# Altium footprint library Common.PcbLib: 29 footprints (part 2 of 2)
Each footprint in its own frame and in the unit in brackets; x right, y up, seen from the top. Pads: shape width x height; smd on the part's side, far side on the other; paste and mask are expansions set on the pad; w line width, h text height; cw(c..) or ccw(c..) is an arc to the next point about the centre after c.
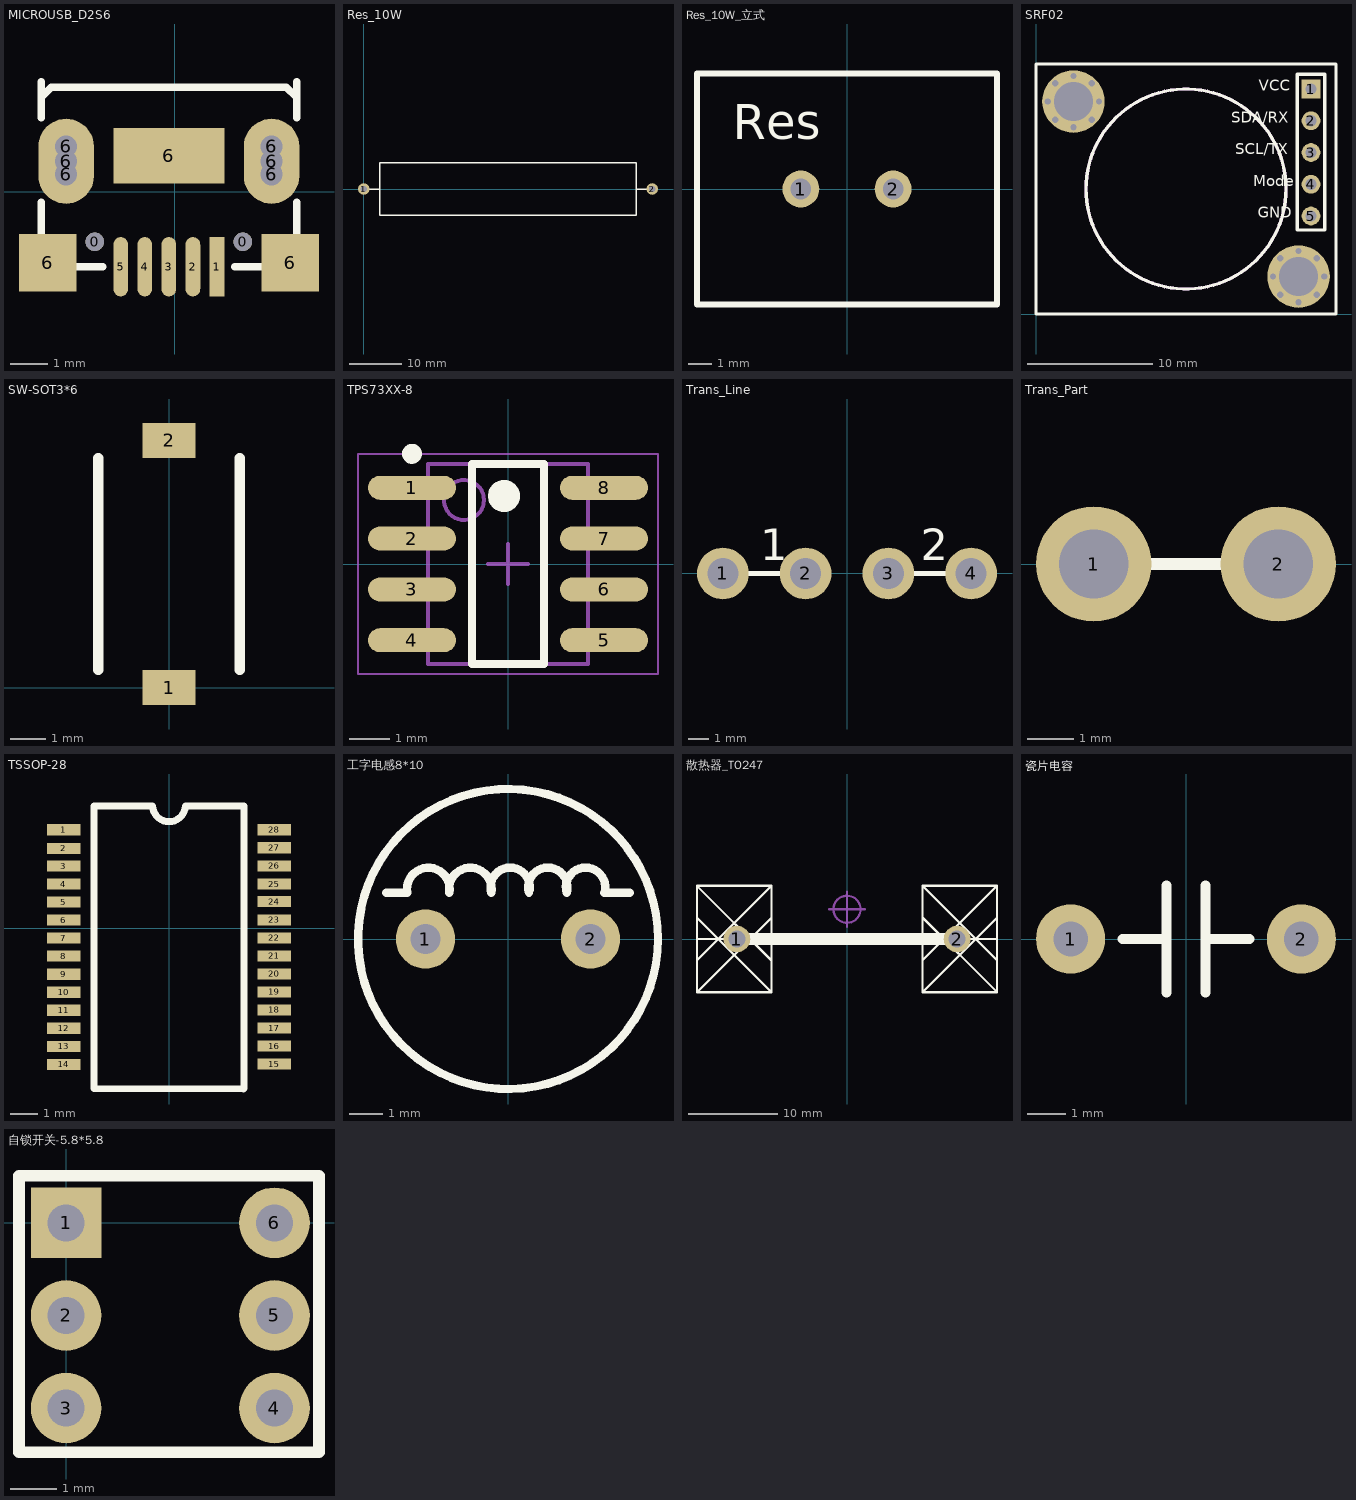
[diagram p1: the footprints below, top view; thin cyan lines are the x and y axes]

## MICROUSB_D2S6 [mm]
height 1.35
pads (16):
  round 0.5 hole 0.5: 0(-2.157,-1.357) 0(1.843,-1.357)
  rect 0.4x1.6 smd: 1(1.143,-2.032)
  oval 0.4x1.6 smd: 2(0.493,-2.032) 3(-0.157,-2.032) 4(-0.807,-2.032) 5(-1.457,-2.032)
  rect 1.55x1.55 smd: 6(-3.429,-1.929) 6(3.124,-1.929)
  round 0.8 hole 0.6: 6(-2.932,0.468) 6(-2.932,1.218) 6(2.618,0.468) 6(2.618,1.218)
  oval 1.5x2.3 hole 0.6: 6(-2.932,0.818) 6(2.618,0.818)
  rect 3x1.5 smd: 6(-0.157,0.968)
Top Overlay:
  lines w0.2: -3.607,-0.294 -3.607,-2.032 -1.935,-2.032 ; -3.607,1.992 -3.607,2.968 ; 1.621,-2.032 3.293,-2.032 3.293,-0.294 ; 3.293,1.992 3.293,2.968
  lines w0.203: -3.607,2.54 -3.329,2.818 2.872,2.818 3.015,2.818 3.293,2.54

## Res_10W [mm] "水泥电阻"
height 10
pads (2):
  round 2.2 hole 1.2: 1(0,0) 2(55,0)
Top Overlay:
  lines w0.254: 0,0 2.873,0 ; 52.127,0 55,0 ; 3,-5 3,5 52,5 52,-5 3,-5

## Res_10W_立式 [mm] "立式水泥电阻"
pads (2):
  round 1.6 hole 0.9: 1(-2,0) 2(2,0)
Top Overlay:
  lines w0.254: -6.5,4.977 -6.5,-5 6.5,-5 ; -6.5,5 6.5,5 6.5,-4.977
  text "Res" at -4.953,2.159 h1.52

## SRF02 [mm]
height 17
pads (7):
  rect 1.5x1.5 hole 0.9: 1(22,18)
  round 1.5 hole 0.9: 2(22,15.46) 3(22,12.92) 4(22,10.38) 5(22,7.84)
  round 5 hole 3.1: ""(3,17) ""(21,3)
via 3,14.95 diameter 0.6 hole 0.5
via 4.464,15.536 diameter 0.6 hole 0.5
via 1.536,15.536 diameter 0.6 hole 0.5
via 0.95,17 diameter 0.6 hole 0.5
via 3,19.05 diameter 0.6 hole 0.5
via 4.464,18.464 diameter 0.6 hole 0.5
via 5.05,17 diameter 0.6 hole 0.5
via 1.536,18.464 diameter 0.6 hole 0.5
via 21,0.95 diameter 0.6 hole 0.5
via 22.464,1.536 diameter 0.6 hole 0.5
via 19.536,1.536 diameter 0.6 hole 0.5
via 18.95,3 diameter 0.6 hole 0.5
via 21,5.05 diameter 0.6 hole 0.5
via 22.464,4.464 diameter 0.6 hole 0.5
via 23.05,3 diameter 0.6 hole 0.5
via 19.536,4.464 diameter 0.6 hole 0.5
Top Overlay:
  circle w0.254: c12,10 r8
  lines w0.254: 0,0 24,0 24,20 0,20 0,0 ; 20.9,6.731 20.9,19.177 23.1,19.177 23.1,6.731 20.9,6.731
  text "GND" at 17.74,7.366 h1.52
  text "Mode" at 17.37,9.905 h1.52
  text "SCL/TX" at 15.923,12.446 h1.52
  text "SDA/RX" at 15.621,14.986 h1.52
  text "VCC" at 17.806,17.526 h1.52
Mechanical 13:
  circle w0.254: c12,10 r8

## SW-SOT3*6 [mm]
height 2.5
pads (2):
  rect 1.5x1 smd: 1(0,0) 2(0,7)
Top Overlay:
  lines w0.3: -2,0.5 -2,6.5 ; 2,0.5 2,6.5

## TPS73XX-8 [mm] "SOIC, 8-Leads, Body 4.9x3.9mm, Pitch 1.27mm, IPC Medium Density"
height 1.75
pads (8):
  oval 2.2x0.6 smd: 1(-2.4,1.905) 2(-2.4,0.635) 3(-2.4,-0.635) 4(-2.4,-1.905) 5(2.4,-1.905) 6(2.4,-0.635) 7(2.4,0.635) 8(2.4,1.905)
Top Overlay:
  circle w0.25: c-2.4,2.755 r0.125
  circle w0.4: c-0.1,1.7 r0.2
  lines w0.2: -0.9,-2.5 -0.9,2.5 0.9,2.5 0.9,-2.5 -0.9,-2.5
Mechanical 13:
  circle w0.1: c-1.1,1.6 r0.5
  lines w0.1: -2,-2.5 -2,2.5 2,2.5 2,-2.5 -2,-2.5
Mechanical 15:
  lines w0.05: -3.75,-2.75 -3.75,2.75 3.75,2.75 3.75,-2.75 -3.75,-2.75
  lines w0.1: -0.5,0 0.5,0 ; 0,-0.5 0,0.5
3D body: height 1.75, standoff 0.1, extent -2,-2.5 2,2.5

## Trans_Line [mm] "变压器"
pads (4):
  round 2.5 hole 1.5: 1(-6,0) 2(-2,0) 3(2,0) 4(6,0)
Top Overlay:
  lines w0.254: -6,0 -2,0 ; 2,0 6,0
  text "1" at -4.191,0.635 h1.52
  text "2" at 3.556,0.635 h1.52

## Trans_Part [mm] "变压器单个绕组"
pads (2):
  round 2.5 hole 1.5: 1(-6,0) 2(-2,0)
Top Overlay:
  lines w0.254: -6,0 -2,0

## TSSOP-28 [mm]
height 4.7
pads (28):
  rect 1.2x0.4 smd: 1(-3.81,3.556) 2(-3.81,2.886) 3(-3.81,2.246) 4(-3.81,1.596) 5(-3.81,0.946) 6(-3.81,0.296) 7(-3.81,-0.354) 8(-3.81,-1.004) 9(-3.81,-1.654) 10(-3.81,-2.304) 11(-3.81,-2.954) 12(-3.81,-3.604) 13(-3.81,-4.254) 14(-3.81,-4.904) 15(3.79,-4.894) 16(3.79,-4.244) 17(3.79,-3.594) 18(3.79,-2.944) 19(3.79,-2.294) 20(3.79,-1.644) 21(3.79,-0.994) 22(3.79,-0.344) 23(3.79,0.306) 24(3.79,0.966) 25(3.79,1.596) 26(3.79,2.256) 27(3.79,2.906) 28(3.79,3.556)
Top Overlay:
  lines w0.254: -0.601,4.416 -2.71,4.416 -2.71,-5.784 2.68,-5.794 ; -0.6,4.418 ccw(c-0.01,4.436) 0.58,4.416 2.69,4.416 2.69,-5.784

## 工字电感8*10 [mm]
height 13
pads (2):
  round 1.8 hole 0.9: 1(-2.5,0) 2(2.5,0)
Top Overlay:
  circle w0.254: c0,0 r4.544
  lines w0.254: -3.683,1.397 -3.048,1.397 cw(c-2.413,1.513) -1.778,1.397 cw(c-1.143,1.513) -0.508,1.397 cw(c0.064,1.566) 0.635,1.397 cw(c1.206,1.566) 1.778,1.397 cw(c2.349,1.566) 2.921,1.397 3.683,1.397

## 散热器_TO247 [mm]
height 38
pads (2):
  round 3 hole 1.9: 1(-12.4,0) 2(12.4,0)
Top Overlay:
  lines w0.254: -16.9,-2.4 -8.5,6 ; -16.9,0 -12.4,0 ; -16.891,2.391 -8.5,-6 -8.5,6 ; -16.764,5.842 -8.509,-2.413 ; -8.531,-6 -16.9,-6 ; -8.5,2.4 -16.9,-6 ; 8.5,-2.4 16.9,6 ; 8.509,2.413 16.764,-5.842 ; 8.531,6 16.9,6 ; 12.4,0 16.9,0 ; 16.891,-2.391 8.5,6 8.5,-6 ; 16.9,2.4 8.5,-6 ; -16.9,-6 -16.9,6 -8.5,6 ; 8.5,-6 16.9,-6 16.9,6
  lines w1.4: -12.4,0 12.4,0
Mechanical 1:
  circle w0.254: c0,3.35 r1.525
  lines w0.254: -2,3.35 2,3.35 ; 0,1.35 0,5.35

## 瓷片电容 [mm] "6mm脚距"
height 9
pads (2):
  round 1.8 hole 0.9: 1(-3,0) 2(3,0)
Top Overlay:
  lines w0.254: -1.651,0 -0.635,0 ; -0.508,-1.397 -0.508,1.397 ; 0.508,-1.397 0.508,1.397 ; 0.635,0 1.651,0

## 自锁开关-5.8*5.8 [mm]
pads (6):
  rect 1.524x1.524 hole 0.8: 1(0,0)
  round 1.524 hole 0.8: 2(0,-2) 3(0,-4) 4(4.5,-4) 5(4.5,-2) 6(4.5,0)
Top Overlay:
  lines w0.254: -1.016,-4.953 -1.016,1.016 5.461,1.016 5.461,-4.953 -1.016,-4.953